# Altium schematic symbol library LM393.SCHLIB: 1 symbol
Pins are listed as number, name and electrical type; pins without a type are passive.

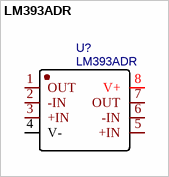
[diagram p0: symbol LM393ADR]

## LM393ADR
designator U?
BOM_Manufacturer: TI; SMT Type: Extend; BOM_Supplier: LCSC; BOM_Manufacturer Part: LM393ADR; image: //image.lceda.cn/szlcsc/C30394.jpg; BOM_Supplier Part: C30394; BOM_JLCPCB SMD: Yes; spicePre: U; spiceSymbolName: LM393ADR
footprint SOIC-8_L5.0-W4.0-P1.27-LS6.0-BL
pins: 1 OUT, 2 -IN, 3 +IN, 4 V-, 5 +IN, 6 -IN, 7 OUT, 8 V+